# EAGLE library part TXB0108 (library MinotaurParts)
3.3 - 5 volt level converter
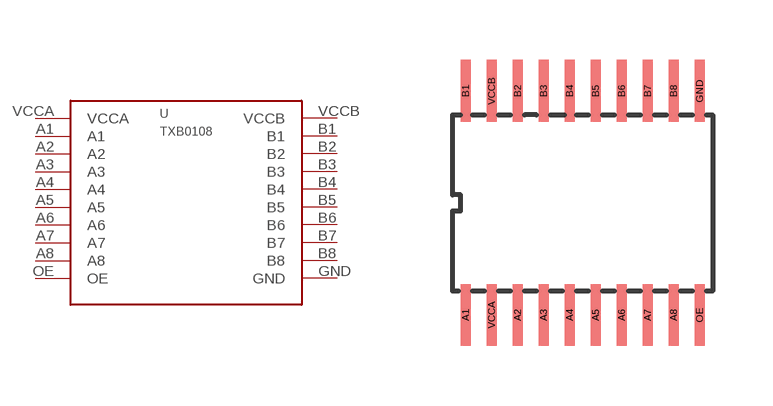
[diagram p0: symbol with the pads of TXB0108; footprint TXB0108]

Designator prefix -

## TXB0108  [TXB0108]
A1  A1
A2  A2
A3  A3
A4  A4
A5  A5
A6  A6
A7  A7
A8  A8
B1  B1
B2  B2
B3  B3
B4  B4
B5  B5
B6  B6
B7  B7
B8  B8
GND  GND
OE  OE
VCCA  VCCA
VCCB  VCCB

## Footprint TXB0108 (pad centres in mm)
smd 0.25 x 1.55: A1 -2.925,-2.8; A2 -1.625,-2.8; A3 -0.975,-2.8; A4 -0.325,-2.8; A5 0.325,-2.8; A6 0.975,-2.8; A7 1.625,-2.8; A8 2.275,-2.8; B1 -2.925,2.8; B2 -1.625,2.8; B3 -0.975,2.8; B4 -0.325,2.8; B5 0.325,2.8; B6 0.975,2.8; B7 1.625,2.8; B8 2.275,2.8; GND 2.925,2.8; OE 2.925,-2.8; VCCA -2.275,-2.8; VCCB -2.275,2.8